# Altium schematic symbol library BLDC.SCHLIB: 10 symbols
Pins are listed as number, name and electrical type; pins without a type are passive.

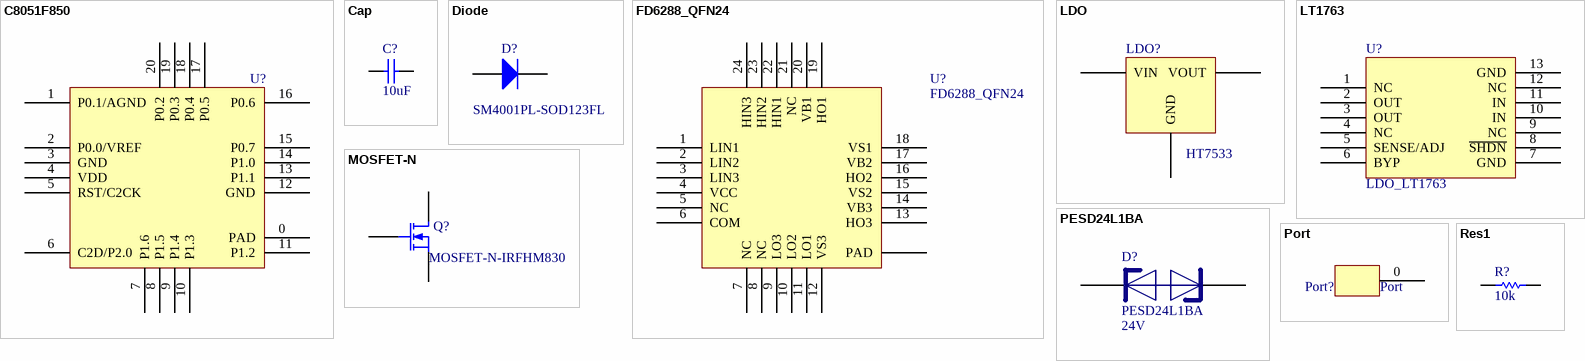
[diagram p0: symbols C8051F850 to Res1]

## C8051F850
designator U?  (value not drawn)
U?
footprint QFN20 (For SiliconLib C8051_F850)
pins: 0 PAD, 1 P0.1/AGND, 2 P0.0/VREF, 3 GND, 4 VDD, 5 RST/C2CK, 6 C2D/P2.0, 7 P1.6, 8 P1.5, 9 P1.4, 10 P1.3, 11 P1.2, 12 GND, 13 P1.1, 14 P1.0, 15 P0.7, 16 P0.6, 17 P0.5, 18 P0.4, 19 P0.3, 20 P0.2

## Cap
designator C?  value 10uF  (hidden comment: Cap)
Capacitor; Published: 8-Jun-2000; LatestRevisionDate: 17-Jul-2002; LatestRevisionNote: Re-released for DXP Platform.; PackageReference: RAD-0.3; Publisher: Altium Limited; PackageDescription: Radial Cap, Thru-Hole; 2 Leads; 0.3 in Pin Spacing
simulation model CAP (Capacitor)
signal-integrity model Cap
footprint 0603_HIGH (Chip Capacitor, 2-Leads, Body 1.60x0.85mm, IPC High Density)
pins: 1, 2

## Diode
designator D?, comment SM4001PL-SOD123FL
Default Diode; Published: 8-Jun-2000; LatestRevisionDate: 17-Jul-2002; LatestRevisionNote: Re-released for DXP Platform.; PackageVersion: Sep-1996; PackageReference: SMC; Publisher: Altium Limited; PackageDescription: DO-214-AB/SMC; 2 C-Bend Leads; Body 7.9 x 5.9 mm, inc. leads (LxW); Code_JEDEC: DO-214-AB
footprint SOD123 (SODFL, 2-Leads, Body 1.60x3.50mm, IPC Medium Density)
pins: 1 A, 2 K

## FD6288_QFN24
designator U?
footprint QFN50P400X400X80_HS-25N (QFN, 24-Leads, Body 4.00x4.00mm, Pitch 0.50mm, Thermal Pad 2.70x2.70mm, IPC Medium Density)
pins: 0 PAD, 1 LIN1, 2 LIN2, 3 LIN3, 4 VCC, 5 NC, 6 COM, 7 NC, 8 NC, 9 LO3, 10 LO2, 11 LO1, 12 VS3, 13 HO3, 14 VB3, 15 VS2, 16 HO2, 17 VB2, 18 VS1, 19 HO1, 20 VB1, 21 NC, 22 HIN1, 23 HIN2, 24 HIN3

## LDO
designator LDO?, comment HT7533
footprint SOT89-150P348X160-3N (SOT89, 3-Leads, Body 4.50x2.45mm, Pitch 1.50mm, Lead Span 3.5mm, IPC Medium Density)
pins: 1 GND, 2 VIN, 3 VOUT

## LT1763
designator U?, comment LDO_LT1763
footprint DFN3X4
pins: 1 NC, 2 OUT, 3 OUT, 4 NC, 5 SENSE/ADJ, 6 BYP, 7 GND, 8 ~{SHDN}, 9 NC, 10 IN, 11 IN, 12 NC, 13 GND

## MOSFET-N
designator Q?, comment MOSFET-N-IRFHM830
N-Channel MOSFET; Published: 8-Jun-2000; LatestRevisionDate: 17-Jul-2002; LatestRevisionNote: Re-released for DXP Platform.; PackageVersion: 1995/1996; PackageReference: E3; Publisher: Altium Limited; PackageDescription: TO, Flat Index; 3 In-Line, Axial Leads; Body Dia. 4.6mm; Lead Dia. 0.5 mm (max)
simulation model NMOS (MOSFET-N)
footprint PQFN3X3 (PQFN, 16-Leads, Body 3.30x3.30mm, Pitch 0.65mm, Thermal Pad 2.37x2.37mm, IPC High Density)
pins: 1 S, 2 G, 3 D

## PESD24L1BA
designator D?  value 24V
footprint SODFL250X110-2N (SODFL, 2-Leads, Body 1.25x2.50mm, IPC Medium Density)
pins: 1, 2

## Port
designator Port?
footprint POWER_POINT (power in  pins)
pins: 0 port

## Res1
designator R?  value 10k  (hidden comment: Res1)
Resistor; Published: 8-Jun-2000; LatestRevisionDate: 17-Jul-2002; LatestRevisionNote: Re-released for DXP Platform.; PackageReference: AXIAL-0.3; Publisher: Altium Limited; PackageDescription: Axial Device, Thru-Hole; 2 Leads; 0.3 in Pin Spacing
simulation model RESISTOR (Resistor)
signal-integrity model Res
footprint 0402_High (Chip Capacitor, 2-Leads, Body 1.00x0.50mm, IPC High Density)
pins: 1, 2